# EAGLE library part LM555CMM/NOPB (library ecad)
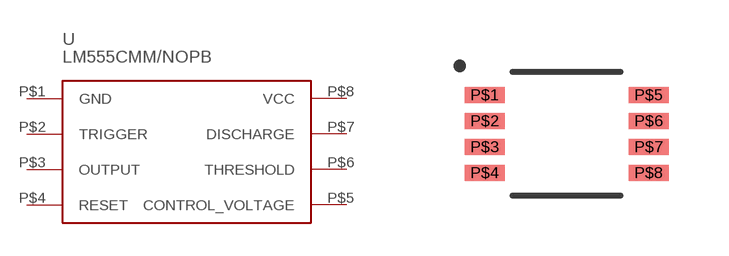
[diagram p0: symbol with the pads of S-PDSO-G8; footprint S-PDSO-G8]

Designator prefix -

## LM555CMM/NOPB  [S-PDSO-G8]
P$1  GND  pas
P$2  TRIGGER  pas
P$3  OUTPUT  pas
P$4  RESET  pas
P$5  CONTROL_VOLTAGE  pas
P$6  THRESHOLD  pas
P$7  DISCHARGE  pas
P$8  VCC  pas

## Footprint S-PDSO-G8 (pad centres in mm)
smd 1 x 0.4: P$1 -2.05,0.975; P$2 -2.05,0.325; P$3 -2.05,-0.325; P$4 -2.05,-0.975; P$5 2.05,0.975; P$6 2.05,0.325; P$7 2.05,-0.325; P$8 2.05,-0.975